# Altium integrated library 1808Y5K00101JXT.IntLib: 1 symbol
Pins are listed as number, name and electrical type; pins without a type are passive.

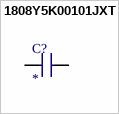
[diagram p0: symbol 1808Y5K00101JXT]

## 1808Y5K00101JXT
designator C?
MP: 1808Y5K00101JXT; Package: None; Price: None; Value: *; Availability: Unavailable
footprint CAPC4520X200N
pins: 1, 2